# Altium footprint library HR682480.PcbLib: 1 footprints
Each footprint in its own frame and in the unit in brackets; x right, y up, seen from the top. Pads: shape width x height; smd on the part's side, far side on the other; paste and mask are expansions set on the pad; w line width, h text height; cw(c..) or ccw(c..) is an arc to the next point about the centre after c.
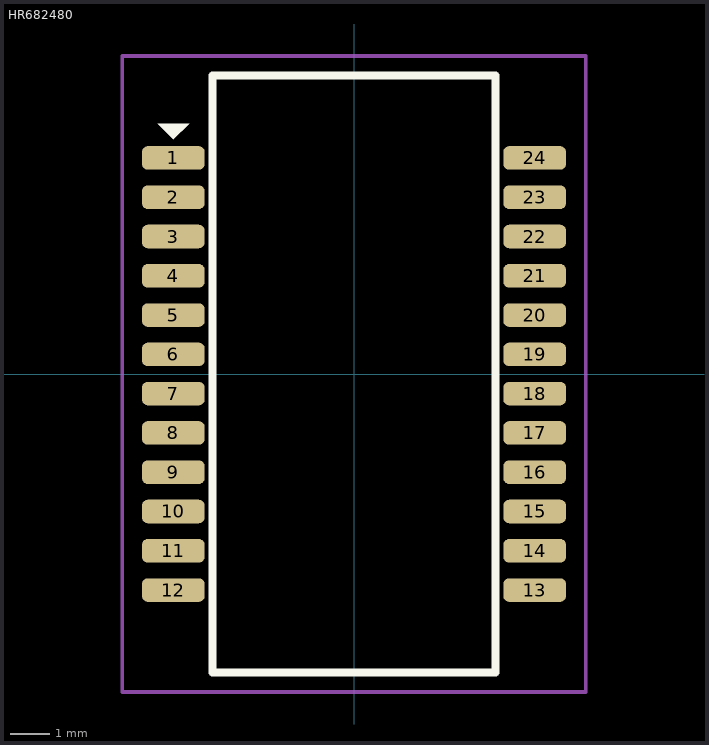
[diagram p0: the footprint, top view; thin cyan lines are the x and y axes]

## HR682480 [mm]
pads (24):
  rrect50% 1.6x0.6 smd: 1(-4.6,5.5) 2(-4.6,4.5) 3(-4.6,3.5) 4(-4.6,2.5) 5(-4.6,1.5) 6(-4.6,0.5) 7(-4.6,-0.5) 8(-4.6,-1.5) 9(-4.6,-2.5) 10(-4.6,-3.5) 11(-4.6,-4.5) 12(-4.6,-5.5) 13(4.6,-5.5) 14(4.6,-4.5) 15(4.6,-3.5) 16(4.6,-2.5) 17(4.6,-1.5) 18(4.6,-0.5) 19(4.6,0.5) 20(4.6,1.5) 21(4.6,2.5) 22(4.6,3.5) 23(4.6,4.5) 24(4.6,5.5)
Top Overlay:
  region: -5,6.375 -4.2,6.375 -4.6,5.975
  lines w0.2: -3.6,-7.6 -3.6,7.6 3.6,7.6 3.6,-7.6 -3.6,-7.6
Top Courtyard:
  lines w0.1: -5.9,-8.1 -3.6,-8.1 5.9,-8.1 5.9,8.1 -5.9,8.1 -5.9,-8.1
3D body: height 4.3, standoff 0, extent -3.6,-7.6 3.6,7.6